# Altium schematic symbol library Schlib1.SchLib: 19 symbols (part 2 of 2)
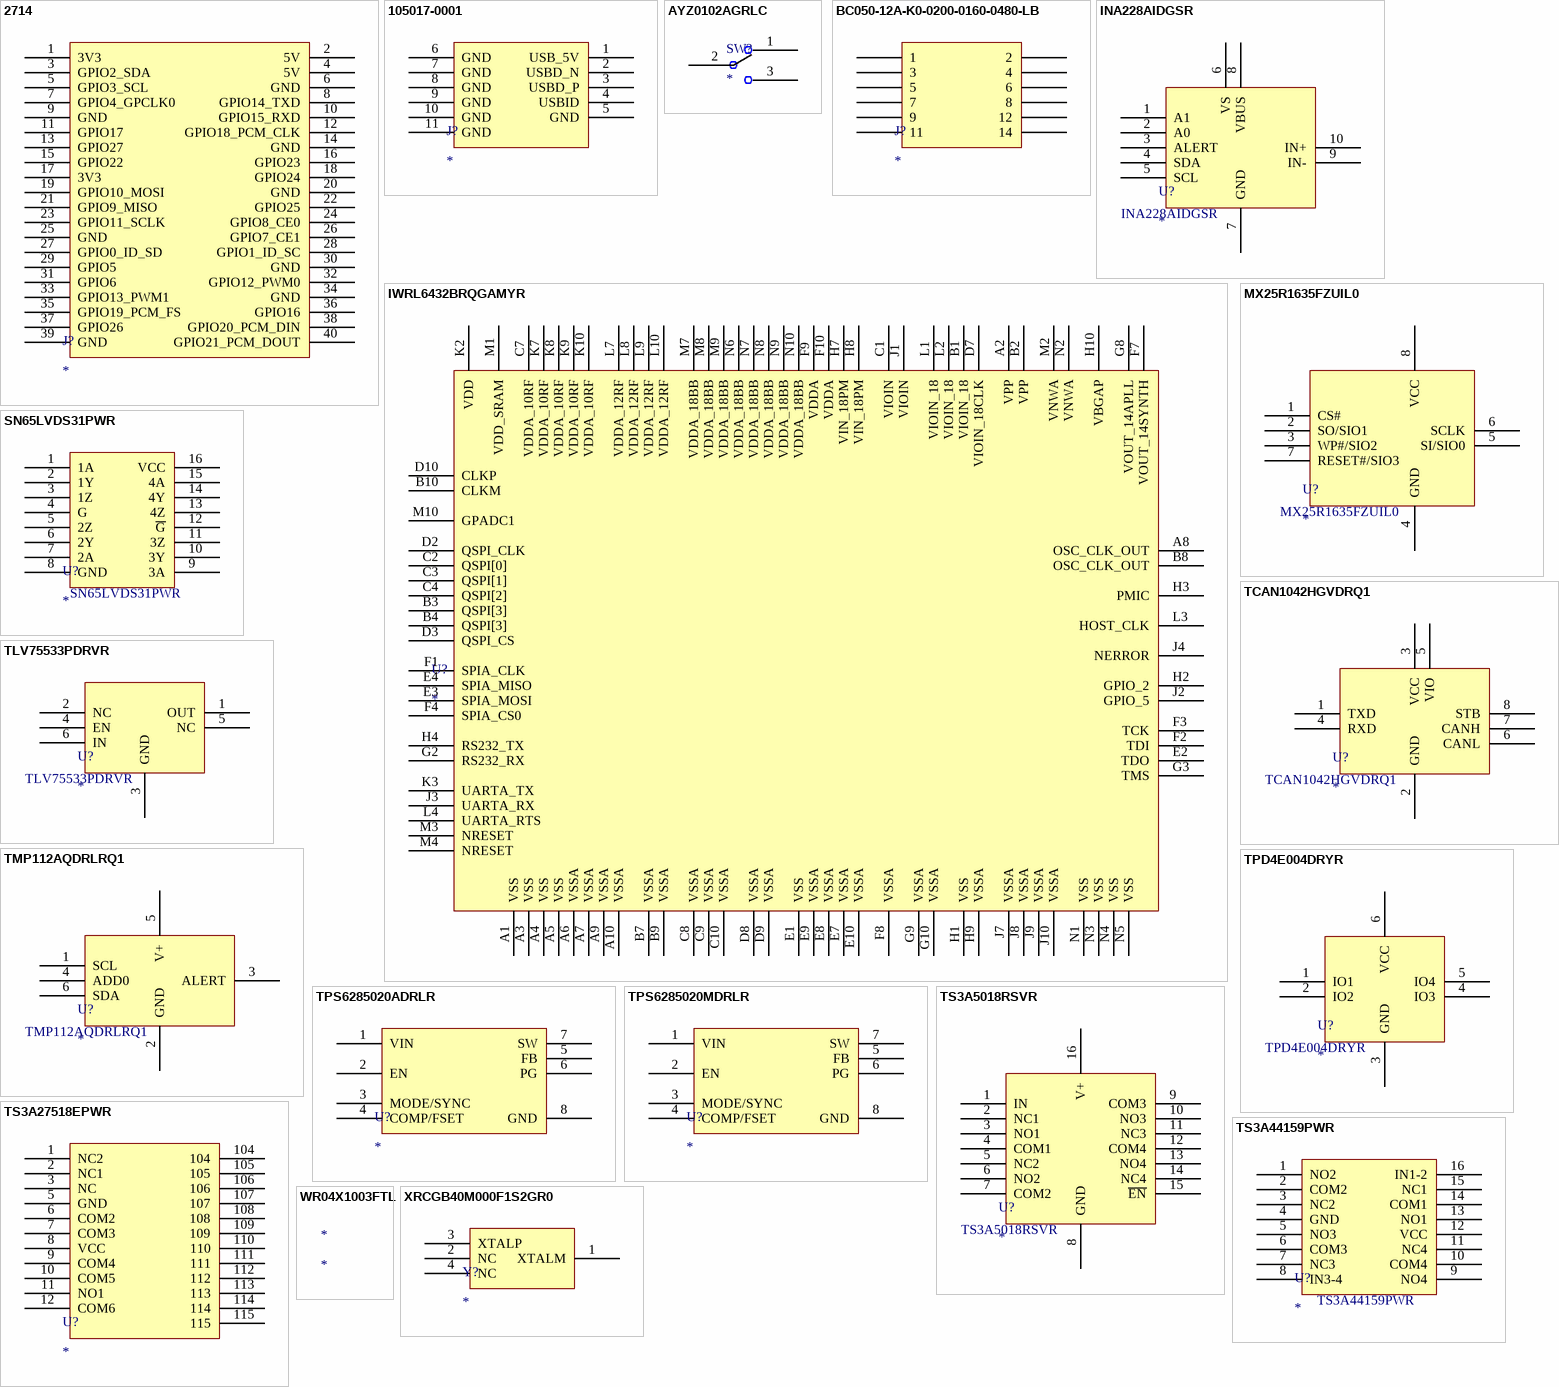
[diagram p1: symbols 2714 to XRCGB40M000F1S2GR0]

## TPS6285020ADRLR
designator U?
2.7-V to 6-V, 2-A, adjustable-frequency, step-down converter in SOT583 package 8-SOT-5X3 -40 to 150; Manufacturer: Texas Instruments; Manufacturer Part Number: TPS6285020ADRLR; Manufacturer Lifecycle Status: ACTIVE; Topology: Buck; Supplier: DigiKey; Supplier Part Number: 296-TPS6285020ADRLRCT-ND; RoHS: Compliant; Category: Voltage Regulators - Switching; Stock: 3967; Pricing: 1=1.52, 10=1.11, 25=1.0072, 100=0.8944, 250=0.8406, 500=0.80822, 1000=0.78154 (USD); Height: 0m; Length: 2.1mm; Lifecycle Status: Production; Pins: 8; Thickness: 550µm; Width: 1.2mm; ComponentLink1URL: https://sigma.octopart.com:443/184160452/technical_drawing/Texas-Instruments-TPS6285020ADRLR.pdf?src-supplier=Texas+Instruments; ComponentLink1Description: https://sigma.octopart.com:443/184160452/technical_drawing/Texas-Instruments-TPS6285020ADRLR.pdf?src-supplier=Texas+Instruments; ComponentLink2URL: https://octopart.com:443/opatz8j6/c1?t=04P0fWGL_cudllwmZINDiw2LV0UnQCBdEPC0TCiqtskBizWNZcYiud0zDodHV72PkfVAyckZwdOCP8RKkn6kOfyc1n5ayLeA0HxSBWJegEPGSGLcx5ZDwSrrVBBZMisL5iy0W6ZDyev6DYemWZv0TF3G9z2uzb8IyCt9JtlxFA4Kz3ep-HVrOA020RUMv0sDaqoO5QXkreUu2MZnPzpZ92hCZ4nlw88inlc1y5NUq3fymrAhanz4vne6D2PwE_A-BqCeNi6ywDWj7Zh3gVnmYHWucFLezg1APRGL1y_LI3b9EYi3y23IDx847xhIzfpELOnbBqVJCU5eR59dsCpX5dCCqJQSO7fhMA-LdTBewxpk-7SPURUjvrKQ9fgVnwgpJBWZzZVV-DQ&src-supplier=Texas+Instruments; ComponentLink2Description: https://octopart.com:443/opatz8j6/c1?t=04P0fWGL_cudllwmZINDiw2LV0UnQCBdEPC0TCiqtskBizWNZcYiud0zDodHV72PkfVAyckZwdOCP8RKkn6kOfyc1n5ayLeA0HxSBWJegEPGSGLcx5ZDwSrrVBBZMisL5iy0W6ZDyev6DYemWZv0TF3G9z2uzb8IyCt9JtlxFA4Kz3ep-HVrOA020RUMv0sDaqoO5QXkreUu2MZnPzpZ92hCZ4nlw88inlc1y5NUq3fymrAhanz4vne6D2PwE_A-BqCeNi6ywDWj7Zh3gVnmYHWucFLezg1APRGL1y_LI3b9EYi3y23IDx847xhIzfpELOnbBqVJCU5eR59dsCpX5dCCqJQSO7fhMA-LdTBewxpk-7SPURUjvrKQ9fgVnwgpJBWZzZVV-DQ&src-supplier=Texas+Instruments; ComponentLink3URL: https://sigma.octopart.com:443/182665545/technical_drawing/Texas-Instruments-TPS6285020ADRLR.pdf?src-supplier=Texas+Instruments; ComponentLink3Description: https://sigma.octopart.com:443/182665545/technical_drawing/Texas-Instruments-TPS6285020ADRLR.pdf?src-supplier=Texas+Instruments; ComponentLink4URL: https://sigma.octopart.com:443/158891806/technical_drawing/Texas-Instruments-TPS6285020ADRLR.pdf?src-supplier=Texas+Instruments; ComponentLink4Description: https://sigma.octopart.com:443/158891806/technical_drawing/Texas-Instruments-TPS6285020ADRLR.pdf?src-supplier=Texas+Instruments; ComponentLink5URL: http://sigma.octopart.com:80/reach_statement/Texas-Instruments-company-64.pdf?src-supplier=Compliance+Statements; ComponentLink5Description: http://sigma.octopart.com:80/reach_statement/Texas-Instruments-company-64.pdf?src-supplier=Compliance+Statements; ComponentLink6URL: http://sigma.octopart.com:80/conflict_mineral_statement/Texas-Instruments-company-63.pdf?src-supplier=Compliance+Statements; ComponentLink6Description: http://sigma.octopart.com:80/conflict_mineral_statement/Texas-Instruments-company-63.pdf?src-supplier=Compliance+Statements
pins: 1 VIN, 2 EN, 3 MODE/SYNC, 4 COMP/FSET, 5 FB, 6 PG, 7 SW, 8 GND

## TPS6285020MDRLR
designator U?
2.7-V to 6-V, 2-A, adjustable-frequency, step-down converter in SOT583 package 8-SOT-5X3 -40 to 150; Manufacturer: Texas Instruments; Manufacturer Part Number: TPS6285020MDRLR; Manufacturer Lifecycle Status: ACTIVE; Topology: Buck; Supplier: DigiKey; Supplier Part Number: 296-TPS6285020MDRLRCT-ND; RoHS: Compliant; Category: Voltage Regulators - Switching; Stock: 2434; Pricing: 1=1.52, 10=1.11, 25=1.0072, 100=0.8944, 250=0.8406, 500=0.80822, 1000=0.78154 (USD); Height: 0m; Length: 2.1mm; Lifecycle Status: Production; Pins: 8; Thickness: 550µm; Width: 1.2mm; ComponentLink1URL: https://sigma.octopart.com:443/184160452/technical_drawing/Texas-Instruments-TPS6285020MDRLR.pdf?src-supplier=Texas+Instruments; ComponentLink1Description: https://sigma.octopart.com:443/184160452/technical_drawing/Texas-Instruments-TPS6285020MDRLR.pdf?src-supplier=Texas+Instruments; ComponentLink2URL: https://octopart.com:443/opatz8j6/c1?t=j3yBvK7Knh4WlWv-GCmcuFftOO46dSNwGQl-vghnWa4P5FbmLUGqZNdsGfaa2BRR46_Y1nzoe2qF8sMvCt876JOyEgPizEtcT2yvP1vZQytL7fg4rcnOrOugqRiKWn0286UeK7FulRXUg4pTSKccoaKiJwsZgYKIRxgW7j4fAHRZJY4lsJ0ZDv8xhLvzrIp2Pcb8cqxZC7ty7vl1hVH_WtJZr1qIj67qX8542lWXUQdjGQKeDgJuvlZqR-rHtLmJKlwkQEL8PBADkijrD9-u13OcaRMmMNay04XWwwbZoMmW1KE4hF6cOnWV_RA-QnpXjrLeXbxdYo-tweympHrjh5YqTTZaQriQ9CqmxVDrh805T_blsE6klgcM7lXPiTRjw5KW9wlzXuU&src-supplier=Texas+Instruments; ComponentLink2Description: https://octopart.com:443/opatz8j6/c1?t=j3yBvK7Knh4WlWv-GCmcuFftOO46dSNwGQl-vghnWa4P5FbmLUGqZNdsGfaa2BRR46_Y1nzoe2qF8sMvCt876JOyEgPizEtcT2yvP1vZQytL7fg4rcnOrOugqRiKWn0286UeK7FulRXUg4pTSKccoaKiJwsZgYKIRxgW7j4fAHRZJY4lsJ0ZDv8xhLvzrIp2Pcb8cqxZC7ty7vl1hVH_WtJZr1qIj67qX8542lWXUQdjGQKeDgJuvlZqR-rHtLmJKlwkQEL8PBADkijrD9-u13OcaRMmMNay04XWwwbZoMmW1KE4hF6cOnWV_RA-QnpXjrLeXbxdYo-tweympHrjh5YqTTZaQriQ9CqmxVDrh805T_blsE6klgcM7lXPiTRjw5KW9wlzXuU&src-supplier=Texas+Instruments; ComponentLink3URL: https://sigma.octopart.com:443/182665545/technical_drawing/Texas-Instruments-TPS6285020MDRLR.pdf?src-supplier=Texas+Instruments; ComponentLink3Description: https://sigma.octopart.com:443/182665545/technical_drawing/Texas-Instruments-TPS6285020MDRLR.pdf?src-supplier=Texas+Instruments; ComponentLink4URL: https://sigma.octopart.com:443/158891806/technical_drawing/Texas-Instruments-TPS6285020MDRLR.pdf?src-supplier=Texas+Instruments; ComponentLink4Description: https://sigma.octopart.com:443/158891806/technical_drawing/Texas-Instruments-TPS6285020MDRLR.pdf?src-supplier=Texas+Instruments; ComponentLink5URL: https://datasheet.octopart.com:443/TPS6285020MDRLR-Texas-Instruments-datasheet-190364767.pdf?src-supplier=LCSC; ComponentLink5Description: https://datasheet.octopart.com:443/TPS6285020MDRLR-Texas-Instruments-datasheet-190364767.pdf?src-supplier=LCSC; ComponentLink6URL: http://sigma.octopart.com:80/reach_statement/Texas-Instruments-company-64.pdf?src-supplier=Compliance+Statements; ComponentLink6Description: http://sigma.octopart.com:80/reach_statement/Texas-Instruments-company-64.pdf?src-supplier=Compliance+Statements; ComponentLink7URL: http://sigma.octopart.com:80/conflict_mineral_statement/Texas-Instruments-company-63.pdf?src-supplier=Compliance+Statements; ComponentLink7Description: http://sigma.octopart.com:80/conflict_mineral_statement/Texas-Instruments-company-63.pdf?src-supplier=Compliance+Statements
pins: 1 VIN, 2 EN, 3 MODE/SYNC, 4 COMP/FSET, 5 FB, 6 PG, 7 SW, 8 GND

## TS3A5018RSVR
designator U?  Manufacturer Part Number: TS3A5018RSVR
4 Circuit IC Switch 2:1 10Ohm 16-UQFN (2.6x1.8); Manufacturer: Texas Instruments; Manufacturer Lifecycle Status: ACTIVE; -3db Bandwidth: 300MHz; Drain to Source Resistance: 10Ω; Max Supply Current: 10µA; Max Supply Voltage: 3.6V; Min Supply Voltage: 1.65V; Nominal Supply Current: 2.5µA; Number of Channels: 4; Number of Outputs: 8; On-State Resistance: 7Ω; Value: 10Ω; Supply Type: Single; Throw Configuration: SPDT; Turn-Off Delay Time: 7ns; Turn-On Delay Time: 9ns; Supplier: DigiKey; Supplier Part Number: 296-27552-1-ND; RoHS: Compliant; Category: Analog Switches and Multiplexers; Stock: 2150; Pricing: 1=0.75, 10=0.534, 25=0.4796, 100=0.4202, 250=0.39184, 500=0.37474, 1000=0.36066 (USD); Ambient Temperature Range High: 85°C; Bandwidth: 300MHz; Height: 550µm; Lead Free: Lead Free; Length: 2.6mm; Lifecycle Status: Production; Max Operating Temperature: 85°C; Min Operating Temperature: -40°C; Mounting Technology: Surface Mount; Number of Circuits: 4; Number of Inputs: 4; Pins: 16; Operating Supply Current: 2.5µA; Packaging: Tape and Reel; Radiation Hardening: No; REACH SVHC: No; Schedule B: 8542390000, 8542390000|8542390000|8542390000|8542390000|8542390000; Thickness: 500µm; Width: 1.8mm; ComponentLink1URL: https://sigma.octopart.com:443/183889323/technical_drawing/Texas-Instruments-TS3A5018RSVR.pdf?src-supplier=Texas+Instruments; ComponentLink1Description: https://sigma.octopart.com:443/183889323/technical_drawing/Texas-Instruments-TS3A5018RSVR.pdf?src-supplier=Texas+Instruments; ComponentLink2URL: https://octopart.com:443/opatz8j6/c1?t=nkA9obc3lOPXHnj5EpZ_XsExA1K6sDDpjBpZQjCR24BWUvkm_hE5UCv0pP10OQgfWyaEofm1HKc3KCBAsGul_e15I2C26xs7hO0zqYcJpNJE_MDfA8_PPrJye8-LW6HxEPR4t6zYJ3eDpXCeEm0lvu40APkU9HdoVGMP8w-iHICDMMeafOKao7FNDsim5ZbpxN1EcN5i5RKHe5see1sNAZvY3vlSorfrPdUjPv1yq6Q8IDa4MHfy1-9XQ9WR-67FRFYXbnewu9zdkZzXfC85-b8MtjHyTJAVQPHe7uwzzkgJ5eOV_2d4F0zv7ST_93JnhfGXYOR_o2740nXIylleHHFEBXexGCnxfy7_G6Ko2qs_IlvJy24I6wR8rnIhSwF9BQd2wrH6&src-supplier=Texas+Instruments; ComponentLink2Description: https://octopart.com:443/opatz8j6/c1?t=nkA9obc3lOPXHnj5EpZ_XsExA1K6sDDpjBpZQjCR24BWUvkm_hE5UCv0pP10OQgfWyaEofm1HKc3KCBAsGul_e15I2C26xs7hO0zqYcJpNJE_MDfA8_PPrJye8-LW6HxEPR4t6zYJ3eDpXCeEm0lvu40APkU9HdoVGMP8w-iHICDMMeafOKao7FNDsim5ZbpxN1EcN5i5RKHe5see1sNAZvY3vlSorfrPdUjPv1yq6Q8IDa4MHfy1-9XQ9WR-67FRFYXbnewu9zdkZzXfC85-b8MtjHyTJAVQPHe7uwzzkgJ5eOV_2d4F0zv7ST_93JnhfGXYOR_o2740nXIylleHHFEBXexGCnxfy7_G6Ko2qs_IlvJy24I6wR8rnIhSwF9BQd2wrH6&src-supplier=Texas+Instruments; ComponentLink3URL: https://datasheet.octopart.com:443/TS3A5018RSVR-Texas-Instruments-datasheet-38890630.pdf?src-supplier=Texas+Instruments; ComponentLink3Description: https://datasheet.octopart.com:443/TS3A5018RSVR-Texas-Instruments-datasheet-38890630.pdf?src-supplier=Texas+Instruments; ComponentLink4URL: https://datasheet.octopart.com:443/TS3A5018RSVR-Texas-Instruments-datasheet-15896052.pdf?src-supplier=Texas+Instruments; ComponentLink4Description: https://datasheet.octopart.com:443/TS3A5018RSVR-Texas-Instruments-datasheet-15896052.pdf?src-supplier=Texas+Instruments; ComponentLink5URL: https://sigma.octopart.com:443/49249936/technical_drawing/Texas-Instruments-TS3A5018RSVR.pdf?src-supplier=Texas+Instruments; ComponentLink5Description: https://sigma.octopart.com:443/49249936/technical_drawing/Texas-Instruments-TS3A5018RSVR.pdf?src-supplier=Texas+Instruments; ComponentLink6URL: https://datasheet.octopart.com:443/TS3A5018RSVR-Texas-Instruments-datasheet-10382952.pdf?src-supplier=Texas+Instruments; ComponentLink6Description: https://datasheet.octopart.com:443/TS3A5018RSVR-Texas-Instruments-datasheet-10382952.pdf?src-supplier=Texas+Instruments; ComponentLink7URL: https://datasheet.octopart.com:443/TS3A5018RSVR-Texas-Instruments-datasheet-10254803.pdf?src-supplier=Texas+Instruments; ComponentLink7Description: https://datasheet.octopart.com:443/TS3A5018RSVR-Texas-Instruments-datasheet-10254803.pdf?src-supplier=Texas+Instruments; ComponentLink8URL: https://datasheet.octopart.com:443/TS3A5018RSVR-Texas-Instruments-datasheet-151683270.pdf?src-supplier=Upverter; ComponentLink8Description: https://datasheet.octopart.com:443/TS3A5018RSVR-Texas-Instruments-datasheet-151683270.pdf?src-supplier=Upverter; ComponentLink9URL: https://datasheet.octopart.com:443/TS3A5018RSVR-Texas-Instruments-datasheet-101363801.pdf?src-supplier=Newark; ComponentLink9Description: https://datasheet.octopart.com:443/TS3A5018RSVR-Texas-Instruments-datasheet-101363801.pdf?src-supplier=Newark; ComponentLink10URL: https://datasheet.octopart.com:443/TS3A5018RSVR-Texas-Instruments-datasheet-58296030.pdf?src-supplier=Newark; ComponentLink10Description: https://datasheet.octopart.com:443/TS3A5018RSVR-Texas-Instruments-datasheet-58296030.pdf?src-supplier=Newark; ComponentLink11URL: https://datasheet.octopart.com:443/TS3A5018RSVR-Texas-Instruments-datasheet-47565049.pdf?src-supplier=Newark; ComponentLink11Description: https://datasheet.octopart.com:443/TS3A5018RSVR-Texas-Instruments-datasheet-47565049.pdf?src-supplier=Newark; ComponentLink12URL: https://datasheet.octopart.com:443/TS3A5018RSVR-Texas-Instruments-datasheet-48032975.pdf?src-supplier=element14+APAC; ComponentLink12Description: https://datasheet.octopart.com:443/TS3A5018RSVR-Texas-Instruments-datasheet-48032975.pdf?src-supplier=element14+APAC; ComponentLink13URL: https://datasheet.octopart.com:443/TS3A5018RSVR-Texas-Instruments-datasheet-148794840.pdf?src-supplier=SHENGYU+ELECTRONICS; ComponentLink13Description: https://datasheet.octopart.com:443/TS3A5018RSVR-Texas-Instruments-datasheet-148794840.pdf?src-supplier=SHENGYU+ELECTRONICS; ComponentLink14URL: http://sigma.octopart.com:80/reach_statement/Texas-Instruments-company-64.pdf?src-supplier=Compliance+Statements; ComponentLink14Description: http://sigma.octopart.com:80/reach_statement/Texas-Instruments-company-64.pdf?src-supplier=Compliance+Statements; ComponentLink15URL: http://sigma.octopart.com:80/conflict_mineral_statement/Texas-Instruments-company-63.pdf?src-supplier=Compliance+Statements; ComponentLink15Description: http://sigma.octopart.com:80/conflict_mineral_statement/Texas-Instruments-company-63.pdf?src-supplier=Compliance+Statements
pins: 1 IN, 2 NC1, 3 NO1, 4 COM1, 5 NC2, 6 NO2, 7 COM2, 8 GND, 9 COM3, 10 NO3, 11 NC3, 12 COM4, 13 NO4, 14 NC4, 15 ~{EN}, 16 V+

## TS3A27518EPWR
designator U?
3.3-V, 2: 1 (SPDT), 6-channel analog multiplexer with 1.8-V compatible control inputs 24-TSSOP -40 to 85; Manufacturer: Texas Instruments; Manufacturer Part Number: TS3A27518EPWR; Manufacturer Lifecycle Status: ACTIVE; -3db Bandwidth: 240MHz; Drain to Source Resistance: 6.2Ω; High Level Output Current: 50mA; Logic Function: Demultiplexer, Multiplexer; Max Supply Voltage: 3.6V; Min Supply Voltage: 1.65V; Number of Channels: 6; Number of Outputs: 12; On-State Resistance: 4.4Ω; Operating Supply Current: 40nA; Operating Supply Voltage: 3V; Supply Type: Single; Turn-Off Delay Time: 60.6ns; Turn-On Delay Time: 59ns; Supplier: DigiKey; Supplier Part Number: 296-24570-1-ND; RoHS: Compliant; Category: Decoders and Multiplexers; Stock: 7462; Pricing: 1=1.7, 10=1.247, 25=1.1336, 100=1.0087, 250=0.9492, 500=0.91334, 1000=0.88383 (USD); Bandwidth: 240MHz; Case/Package: TSSOP; Contact Plating: Gold; Height: 1.2mm; Lead Free: Lead Free; Length: 7.8mm; Lifecycle Status: Production; Low Level Output Current: 50mA; Max Operating Temperature: 85°C; Min Operating Temperature: -40°C; Mounting Technology: Surface Mount; Number of Circuits: 6; Number of Inputs: 6; Pins: 24; Radiation Hardening: No; REACH SVHC: No; Schedule B: 8542390000, 8542390000|8542390000|8542390000|8542390000|8542390000; Thickness: 1mm; Throw Configuration: SPDT; Weight: 89.499445mg; Width: 4.4mm; ComponentLink1URL: https://octopart.com:443/opatz8j6/c1?t=xYR7fg4LFunwAfPyY1UPQMBuLZ2hDhuifPblMo1teG2xy6xsPDNOf1y8WYQpS5sg3bl4NzmDdcnKTJhqozoMI69HNFXLzBV3pFvus_A2qV7oi9IzRjdDrIv7wzIs9l3hxk-CPwQGCrlBvMzCGky8SV1g2K_Qd5QfWKIk4L0o3B0bNx2rsl6S5gwVHtqZ73u9jxe4ECgbk-uuyxtAk8Kp8t2WSlIWr52eOa3jN21w1DmiB-9hHfaT5rxiNpmTE8vEKCUt1HuCYBH4p1zwxX687_J4j99i6_KTzJMc9bynS_MD87LJnHGWSCU4aa4M0ZMmR7c7WRcvxftqoY4tD-DFKCng_gBCY17aLEQJ5vkU4gZKgomfJi1bLcOqynZLtD9cAHoGTBRJnw&src-supplier=Texas+Instruments; ComponentLink1Description: https://octopart.com:443/opatz8j6/c1?t=xYR7fg4LFunwAfPyY1UPQMBuLZ2hDhuifPblMo1teG2xy6xsPDNOf1y8WYQpS5sg3bl4NzmDdcnKTJhqozoMI69HNFXLzBV3pFvus_A2qV7oi9IzRjdDrIv7wzIs9l3hxk-CPwQGCrlBvMzCGky8SV1g2K_Qd5QfWKIk4L0o3B0bNx2rsl6S5gwVHtqZ73u9jxe4ECgbk-uuyxtAk8Kp8t2WSlIWr52eOa3jN21w1DmiB-9hHfaT5rxiNpmTE8vEKCUt1HuCYBH4p1zwxX687_J4j99i6_KTzJMc9bynS_MD87LJnHGWSCU4aa4M0ZMmR7c7WRcvxftqoY4tD-DFKCng_gBCY17aLEQJ5vkU4gZKgomfJi1bLcOqynZLtD9cAHoGTBRJnw&src-supplier=Texas+Instruments; ComponentLink2URL: https://datasheet.octopart.com:443/TS3A27518EPWR-Texas-Instruments-datasheet-10254230.pdf?src-supplier=Texas+Instruments; ComponentLink2Description: https://datasheet.octopart.com:443/TS3A27518EPWR-Texas-Instruments-datasheet-10254230.pdf?src-supplier=Texas+Instruments; ComponentLink3URL: https://sigma.octopart.com:443/49249831/technical_drawing/Texas-Instruments-TS3A27518EPWR.pdf?src-supplier=Texas+Instruments; ComponentLink3Description: https://sigma.octopart.com:443/49249831/technical_drawing/Texas-Instruments-TS3A27518EPWR.pdf?src-supplier=Texas+Instruments; ComponentLink4URL: https://datasheet.octopart.com:443/TS3A27518EPWR-Texas-Instruments-datasheet-148780597.pdf?src-supplier=Upverter; ComponentLink4Description: https://datasheet.octopart.com:443/TS3A27518EPWR-Texas-Instruments-datasheet-148780597.pdf?src-supplier=Upverter; ComponentLink5URL: https://datasheet.octopart.com:443/TS3A27518EPWR-Texas-Instruments-datasheet-33012860.pdf?src-supplier=Farnell; ComponentLink5Description: https://datasheet.octopart.com:443/TS3A27518EPWR-Texas-Instruments-datasheet-33012860.pdf?src-supplier=Farnell; ComponentLink6URL: https://datasheet.octopart.com:443/TS3A27518EPWR.-Texas-Instruments-datasheet-62089067.pdf?src-supplier=Farnell; ComponentLink6Description: https://datasheet.octopart.com:443/TS3A27518EPWR.-Texas-Instruments-datasheet-62089067.pdf?src-supplier=Farnell; ComponentLink7URL: https://datasheet.octopart.com:443/TS3A27518EPWR-Texas-Instruments-datasheet-7576125.pdf?src-supplier=Farnell; ComponentLink7Description: https://datasheet.octopart.com:443/TS3A27518EPWR-Texas-Instruments-datasheet-7576125.pdf?src-supplier=Farnell; ComponentLink8URL: https://datasheet.octopart.com:443/TS3A27518EPWR-Texas-Instruments-datasheet-11536257.pdf?src-supplier=Newark; ComponentLink8Description: https://datasheet.octopart.com:443/TS3A27518EPWR-Texas-Instruments-datasheet-11536257.pdf?src-supplier=Newark; ComponentLink9URL: https://datasheet.octopart.com:443/TS3A27518EPWR-Texas-Instruments-datasheet-66617981.pdf?src-supplier=element14+APAC; ComponentLink9Description: https://datasheet.octopart.com:443/TS3A27518EPWR-Texas-Instruments-datasheet-66617981.pdf?src-supplier=element14+APAC; ComponentLink10URL: https://datasheet.octopart.com:443/TS3A27518EPWR-Texas-Instruments-datasheet-164421003.pdf?src-supplier=SHENGYU+ELECTRONICS; ComponentLink10Description: https://datasheet.octopart.com:443/TS3A27518EPWR-Texas-Instruments-datasheet-164421003.pdf?src-supplier=SHENGYU+ELECTRONICS; ComponentLink11URL: https://datasheet.octopart.com:443/TS3A27518EPWR-Texas-Instruments-datasheet-14119757.pdf?src-supplier=iiiC; ComponentLink11Description: https://datasheet.octopart.com:443/TS3A27518EPWR-Texas-Instruments-datasheet-14119757.pdf?src-supplier=iiiC; ComponentLink12URL: http://sigma.octopart.com:80/conflict_mineral_statement/Texas-Instruments-company-63.pdf?src-supplier=Compliance+Statements; ComponentLink12Description: http://sigma.octopart.com:80/conflict_mineral_statement/Texas-Instruments-company-63.pdf?src-supplier=Compliance+Statements; ComponentLink13URL: http://sigma.octopart.com:80/reach_statement/Texas-Instruments-company-64.pdf?src-supplier=Compliance+Statements; ComponentLink13Description: http://sigma.octopart.com:80/reach_statement/Texas-Instruments-company-64.pdf?src-supplier=Compliance+Statements
pins: 1 NC2, 2 NC1, 3 NC, 5 GND, 6 COM2, 7 COM3, 8 VCC, 9 COM4, 10 COM5, 11 NO1, 12 COM6, 104, 105, 106, 107, 108, 109, 110, 111, 112, 113, 114, 115

## TS3A44159PWR
designator U?  Manufacturer Part Number: TS3A44159PWR
4 Circuit IC Switch 2:1 450mOhm 16-TSSOP; Manufacturer: Texas Instruments; Manufacturer Lifecycle Status: ACTIVE; Bandwidth: 35MHz; Drain to Source Resistance: 300mΩ; Max Supply Current: 400nA; Max Supply Voltage: 4.3V; Min Supply Voltage: 1.65V; Number of Channels: 4; Number of Inputs: 2; Operating Supply Current: 15nA; Operating Supply Voltage: 3V; Supply Type: Single; Throw Configuration: SPDT; Turn-Off Delay Time: 32ns; Turn-On Delay Time: 23ns; Supplier: DigiKey; Supplier Part Number: 296-21915-1-ND; RoHS: Compliant; Category: Decoders and Multiplexers; Stock: 2308; Pricing: 1=0.93, 10=0.671, 25=0.6048, 100=0.5321, 250=0.49744, 500=0.47654, 1000=0.45934 (USD); Case/Package: TSSOP; Frequency: 35MHz; Height: 1.2mm; Lead Free: Lead Free; Length: 5mm; Lifecycle Status: Production; Max Operating Temperature: 85°C; Min Operating Temperature: -40°C; Mounting Technology: Surface Mount; Number of Circuits: 4; Number of Outputs: 4; Pins: 16; Packaging: Cut Tape; Radiation Hardening: No; REACH SVHC: No; Schedule B: 8542390000, 8542390000|8542390000|8542390000|8542390000|8542390000|8542390000|8542390000|8542390000|8542390000|8542390000|8542390000|8542390000|8542390000|8542390000|8542390000|8542390000|8542390000|8542390000|8542390000|8542390000|8542390000|8542390000|8542390000|85; Thickness: 1mm; Weight: 61.887009mg; Width: 4.4mm; ComponentLink1URL: https://sigma.octopart.com:443/189718192/technical_drawing/Texas-Instruments-TS3A44159PWR.pdf?src-supplier=Texas+Instruments; ComponentLink1Description: https://sigma.octopart.com:443/189718192/technical_drawing/Texas-Instruments-TS3A44159PWR.pdf?src-supplier=Texas+Instruments; ComponentLink2URL: https://octopart.com:443/opatz8j6/c1?t=rXaeWDuFs-MWmoah5lvNYRXo2Bk9Hvym-AHlgQGOjiOXulYu_VGlqzUY22fTNflYEouXBkDacGZny1U-jtJ7sIlIghsSW7DjT8q-_7qWUsCut2BC27p0cpE-Oh_NXkgNdq17y99-JdgC-qHjAEiNOMwVb8MXsotTV9Ppd1x-mmXt3ea2xGpU6BHzff88X52SxsoIQWoIabVJlv8q08KkJj2wMvLbsTmjF7hFsk26yUpqCEXqoc2Y5-GWFpCwvksCgb8C-Ml0BnUIVI1OflNSUcSk52Vkdc6RY76wXTvFc2KIAkY4OesOqM5zV2iw9I5ioIItKD_KaCqZHH9mGRChM17jmocWfk4W-MgqoXigQQTJxMkQwdmNmJV5shtYyv58s485kbaK&src-supplier=Texas+Instruments; ComponentLink2Description: https://octopart.com:443/opatz8j6/c1?t=rXaeWDuFs-MWmoah5lvNYRXo2Bk9Hvym-AHlgQGOjiOXulYu_VGlqzUY22fTNflYEouXBkDacGZny1U-jtJ7sIlIghsSW7DjT8q-_7qWUsCut2BC27p0cpE-Oh_NXkgNdq17y99-JdgC-qHjAEiNOMwVb8MXsotTV9Ppd1x-mmXt3ea2xGpU6BHzff88X52SxsoIQWoIabVJlv8q08KkJj2wMvLbsTmjF7hFsk26yUpqCEXqoc2Y5-GWFpCwvksCgb8C-Ml0BnUIVI1OflNSUcSk52Vkdc6RY76wXTvFc2KIAkY4OesOqM5zV2iw9I5ioIItKD_KaCqZHH9mGRChM17jmocWfk4W-MgqoXigQQTJxMkQwdmNmJV5shtYyv58s485kbaK&src-supplier=Texas+Instruments; ComponentLink3URL: https://datasheet.octopart.com:443/TS3A44159PWR-Texas-Instruments-datasheet-10299735.pdf?src-supplier=Texas+Instruments; ComponentLink3Description: https://datasheet.octopart.com:443/TS3A44159PWR-Texas-Instruments-datasheet-10299735.pdf?src-supplier=Texas+Instruments; ComponentLink4URL: https://sigma.octopart.com:443/116621398/technical_drawing/Texas-Instruments-TS3A44159PWR.pdf?src-supplier=Texas+Instruments; ComponentLink4Description: https://sigma.octopart.com:443/116621398/technical_drawing/Texas-Instruments-TS3A44159PWR.pdf?src-supplier=Texas+Instruments; ComponentLink5URL: https://datasheet.octopart.com:443/TS3A44159PWR-Texas-Instruments-datasheet-36993204.pdf?src-supplier=Texas+Instruments; ComponentLink5Description: https://datasheet.octopart.com:443/TS3A44159PWR-Texas-Instruments-datasheet-36993204.pdf?src-supplier=Texas+Instruments; ComponentLink6URL: https://sigma.octopart.com:443/49249815/technical_drawing/Texas-Instruments-TS3A44159PWR.pdf?src-supplier=Texas+Instruments; ComponentLink6Description: https://sigma.octopart.com:443/49249815/technical_drawing/Texas-Instruments-TS3A44159PWR.pdf?src-supplier=Texas+Instruments; ComponentLink7URL: https://datasheet.octopart.com:443/TS3A44159PWR-Texas-Instruments-datasheet-152850.pdf?src-supplier=Texas+Instruments; ComponentLink7Description: https://datasheet.octopart.com:443/TS3A44159PWR-Texas-Instruments-datasheet-152850.pdf?src-supplier=Texas+Instruments; ComponentLink8URL: https://datasheet.octopart.com:443/TS3A44159PWR-Texas-Instruments-datasheet-17023268.pdf?src-supplier=Upverter; ComponentLink8Description: https://datasheet.octopart.com:443/TS3A44159PWR-Texas-Instruments-datasheet-17023268.pdf?src-supplier=Upverter; ComponentLink9URL: https://datasheet.octopart.com:443/TS3A44159PWR-Texas-Instruments-datasheet-66617982.pdf?src-supplier=Newark; ComponentLink9Description: https://datasheet.octopart.com:443/TS3A44159PWR-Texas-Instruments-datasheet-66617982.pdf?src-supplier=Newark; ComponentLink10URL: https://datasheet.octopart.com:443/TS3A44159PWR-Texas-Instruments-datasheet-21821441.pdf?src-supplier=Newark; ComponentLink10Description: https://datasheet.octopart.com:443/TS3A44159PWR-Texas-Instruments-datasheet-21821441.pdf?src-supplier=Newark; ComponentLink11URL: https://datasheet.octopart.com:443/TS3A44159PWR-Texas-Instruments-datasheet-8479994.pdf?src-supplier=Newark; ComponentLink11Description: https://datasheet.octopart.com:443/TS3A44159PWR-Texas-Instruments-datasheet-8479994.pdf?src-supplier=Newark; ComponentLink12URL: https://datasheet.octopart.com:443/TS3A44159PWR-Texas-Instruments-datasheet-164421004.pdf?src-supplier=LCSC; ComponentLink12Description: https://datasheet.octopart.com:443/TS3A44159PWR-Texas-Instruments-datasheet-164421004.pdf?src-supplier=LCSC; ComponentLink13URL: https://datasheet.octopart.com:443/TS3A44159PWR-Texas-Instruments-datasheet-159118335.pdf?src-supplier=LCSC; ComponentLink13Description: https://datasheet.octopart.com:443/TS3A44159PWR-Texas-Instruments-datasheet-159118335.pdf?src-supplier=LCSC; ComponentLink14URL: https://datasheet.octopart.com:443/TS3A44159PWR-Texas-Instruments-datasheet-23769559.pdf?src-supplier=element14+APAC; ComponentLink14Description: https://datasheet.octopart.com:443/TS3A44159PWR-Texas-Instruments-datasheet-23769559.pdf?src-supplier=element14+APAC; ComponentLink15URL: https://datasheet.octopart.com:443/TS3A44159PWR-Texas-Instruments-datasheet-137316104.pdf?src-supplier=Future+Electronics; ComponentLink15Description: https://datasheet.octopart.com:443/TS3A44159PWR-Texas-Instruments-datasheet-137316104.pdf?src-supplier=Future+Electronics; ComponentLink16URL: https://datasheet.octopart.com:443/TS3A44159PWR-Texas-Instruments-datasheet-14119415.pdf?src-supplier=iiiC; ComponentLink16Description: https://datasheet.octopart.com:443/TS3A44159PWR-Texas-Instruments-datasheet-14119415.pdf?src-supplier=iiiC; ComponentLink17URL: http://sigma.octopart.com:80/conflict_mineral_statement/Texas-Instruments-company-63.pdf?src-supplier=Compliance+Statements; ComponentLink17Description: http://sigma.octopart.com:80/conflict_mineral_statement/Texas-Instruments-company-63.pdf?src-supplier=Compliance+Statements; ComponentLink18URL: http://sigma.octopart.com:80/reach_statement/Texas-Instruments-company-64.pdf?src-supplier=Compliance+Statements; ComponentLink18Description: http://sigma.octopart.com:80/reach_statement/Texas-Instruments-company-64.pdf?src-supplier=Compliance+Statements
pins: 1 NO2, 2 COM2, 3 NC2, 4 GND, 5 NO3, 6 COM3, 7 NC3, 8 IN3-4, 9 NO4, 10 COM4, 11 NC4, 12 VCC, 13 NO1, 14 COM1, 15 NC1, 16 IN1-2

## WR04X1003FTL
designator *
62.5mW Thick Film Resistors 50V ±100ppm/℃ ±1% 100kΩ 0402 Chip Resistor - Surface Mount ROHS; Manufacturer: Walsin Technologies; Manufacturer Part Number: WR04X1003FTL; Temperature Coefficient: 100ppm/°C; Supplier: DigiKey; Supplier Part Number: 1292-WR04X1003FTLCT-ND; RoHS: Compliant; Category: Chip SMD Resistors; Stock: 2141811; Pricing: 1=0.1, 10=0.013, 25=0.0088, 50=0.007, 100=0.0055, 250=0.00404, 500=0.00328, 1000=0.00268, 5000=0.00259, 10000=0.00117, 20000=0.00111, 30000=0.0011, 50000=0.00109, 70000=0.00103, 100000=0.00097, 120000=0.00094, 240000=0.00094 (USD); Case/Package: 0402; Case Code (Imperial): 0402; Case Code (Metric): 1005; Composition: Metal Oxide, Thick Film; Contact Material: Tin; Depth: 500µm; Export Control Classification Number (ECCN) Code: EAR99; Height: 350µm; Harmonized Tariff Schedule (HTS) Code: 8533.21.00.30; Introduction Date: 2006-12-27; Lead Free: Lead Free; Length: 1mm; Lifecycle Status: Production; Max Operating Temperature: 155°C; Military Standard: Not; Min Operating Temperature: -55°C; Mounting Technology: Surface Mount; Number of Terminals: 2; Packaging: Cut Tape; Power Dissipation: 62.5mW; Power Rating: 62.5mW; REACH SVHC: Yes; Value: 100kΩ; Schedule B: 8533210045|8533210045|8533210045|8533210045|8533210045|8533210045|8533210045|8533210045|8533210045, 8533210045|8533210045|8533210045|8533210045|8533210045|8533210045|8533210045|8533210045|8533210045|8533210045, 8533210045|8533210045|8533210045|8533210045|8533210045|8533210045|8533210045|8533210045|8533210045|8533210045|8533210045, 8533210045|8533210045|8533210045|8533210045|8533210045|8533210045|8533210045|8533210045|8533210045|8533210045|8533210045|8533210045; Termination: SMD/SMT; Tolerance: 1%; Voltage Rating: 50V; Voltage Rating (DC): 50V; Width: 500µm; Working Voltage: 50V; ComponentLink1URL: https://datasheet.octopart.com:443/WR04X1003FTL-Walsin-Technologies-datasheet-182189174.pdf?src-supplier=IHS; ComponentLink1Description: https://datasheet.octopart.com:443/WR04X1003FTL-Walsin-Technologies-datasheet-182189174.pdf?src-supplier=IHS; ComponentLink2URL: https://datasheet.octopart.com:443/WR04X1003FTL-Walsin-Technologies-datasheet-128065753.pdf?src-supplier=ODG+(Origin+Data+Global); ComponentLink2Description: https://datasheet.octopart.com:443/WR04X1003FTL-Walsin-Technologies-datasheet-128065753.pdf?src-supplier=ODG+(Origin+Data+Global); ComponentLink3URL: https://datasheet.octopart.com:443/WR04X1003FTL-Walsin-Technologies-datasheet-48038251.pdf?src-supplier=element14+APAC; ComponentLink3Description: https://datasheet.octopart.com:443/WR04X1003FTL-Walsin-Technologies-datasheet-48038251.pdf?src-supplier=element14+APAC; ComponentLink4URL: https://datasheet.octopart.com:443/WR04X1003FTL-Walsin-Technologies-datasheet-158279492.pdf?src-supplier=TME; ComponentLink4Description: https://datasheet.octopart.com:443/WR04X1003FTL-Walsin-Technologies-datasheet-158279492.pdf?src-supplier=TME; ComponentLink5URL: https://datasheet.octopart.com/WR04X1003FTL-Walsin-Technologies-datasheet-32780790.pdf; ComponentLink5Description: https://datasheet.octopart.com/WR04X1003FTL-Walsin-Technologies-datasheet-32780790.pdf; ComponentLink6URL: https://datasheet.octopart.com:443/WR04X1003FTL-Walsin-Technologies-datasheet-12511171.pdf?src-supplier=Future+Electronics; ComponentLink6Description: https://datasheet.octopart.com:443/WR04X1003FTL-Walsin-Technologies-datasheet-12511171.pdf?src-supplier=Future+Electronics

## XRCGB40M000F1S2GR0
designator Y?
Crystal, 40MHZ, 8PF, SMD, 2MM X 1.6MM;; Manufacturer: Murata; Manufacturer Part Number: XRCGB40M000F1S2GR0; Supplier: DigiKey; Supplier Part Number: 490-XRCGB40M000F1S2GR0CT-ND; Category: Crystals; Stock: 3900; Pricing: 1=0.31, 10=0.273, 25=0.2584, 50=0.2478, 100=0.2376, 250=0.22472, 500=0.21544, 1000=0.20652 (USD); ComponentLink1URL: http://sigma.octopart.com:80/reach_statement/Murata-company-16.pdf?src-supplier=Compliance+Statements; ComponentLink1Description: http://sigma.octopart.com:80/reach_statement/Murata-company-16.pdf?src-supplier=Compliance+Statements
pins: 1 XTALM, 2 NC, 3 XTALP, 4 NC